# Altium footprint library Diode_SMD.PcbLib: 100 footprints (part 3 of 7)
Each footprint in its own frame and in the unit in brackets; x right, y up, seen from the top. Pads: shape width x height; smd on the part's side, far side on the other; paste and mask are expansions set on the pad; w line width, h text height; cw(c..) or ccw(c..) is an arc to the next point about the centre after c.
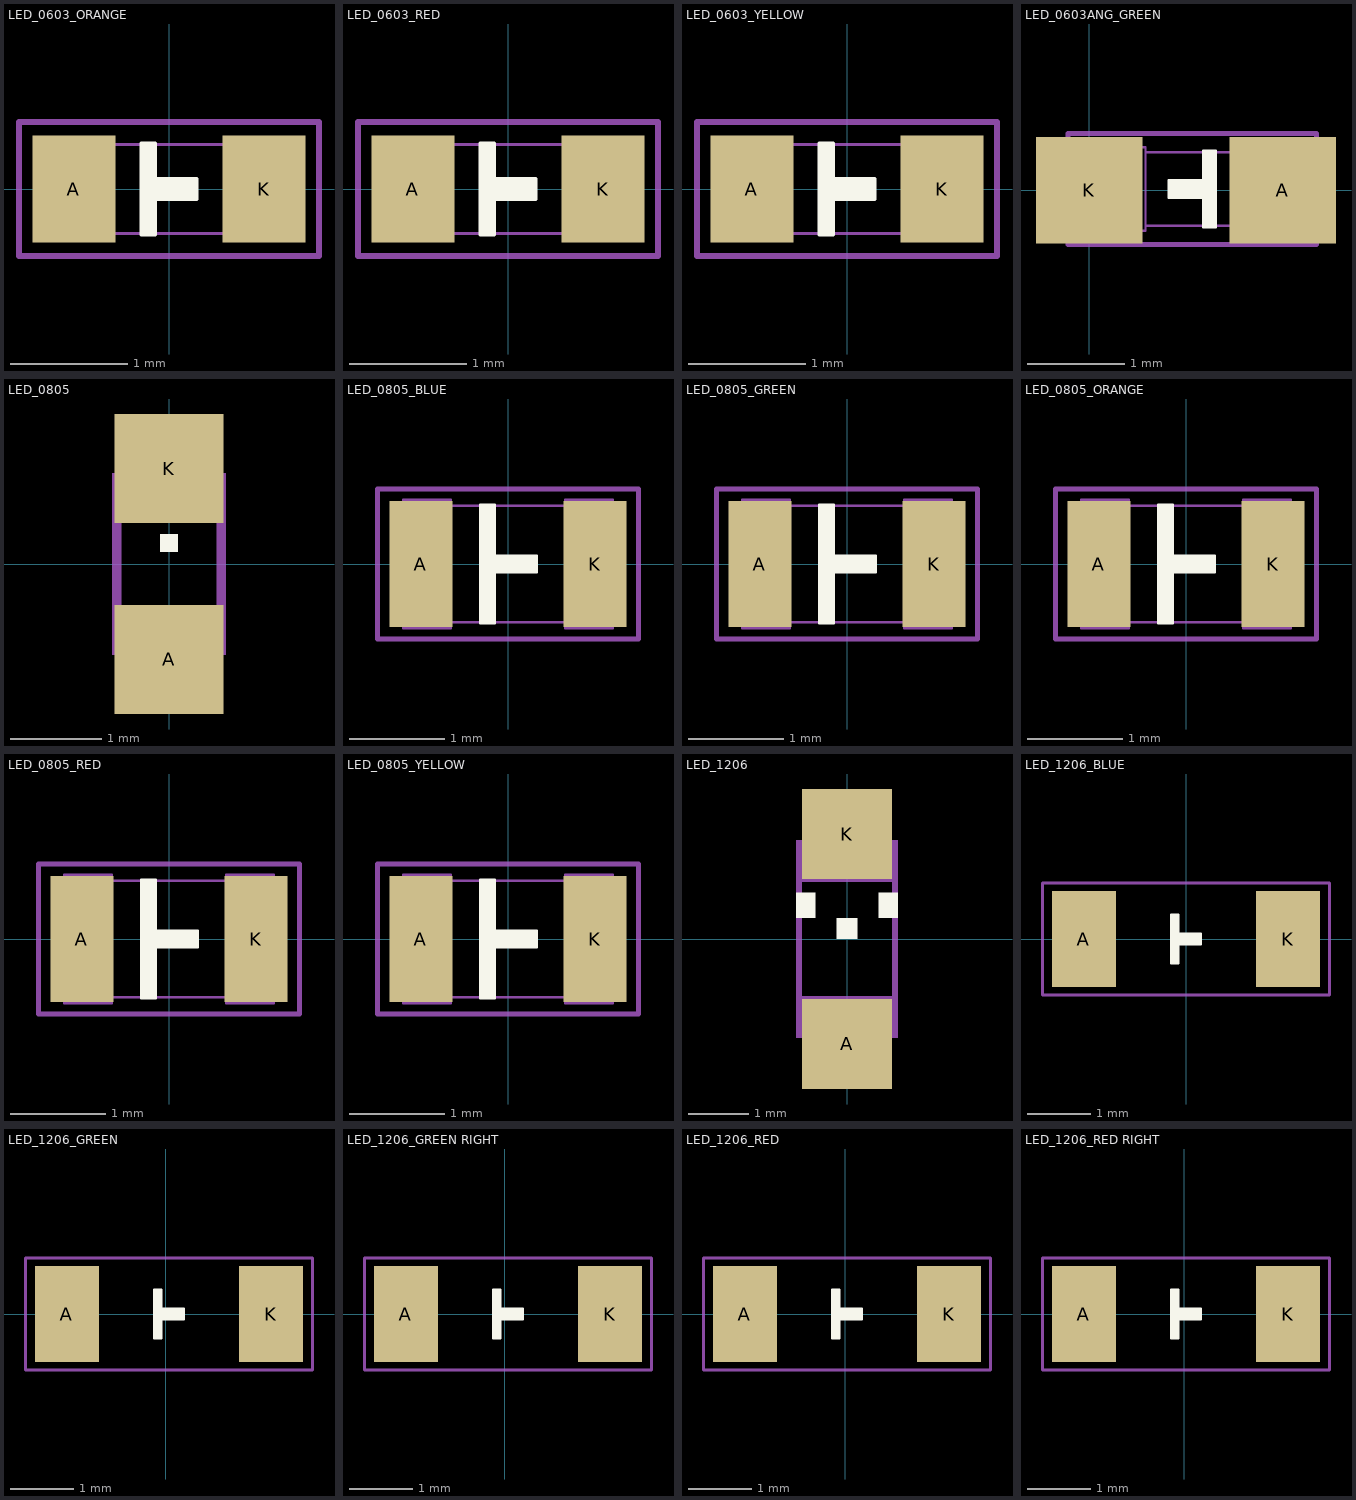
[diagram p2: the footprints below, top view; thin cyan lines are the x and y axes]

## LED_0603_ORANGE [mil]
height 31.5
pads (2):
  rect 28x36 smd: A(-32,0) K(32,0)
Top Overlay:
  region: -9.5,15.5 -4.5,15.5 -4.5,3.5 9.5,3.5 9.5,-3.5 -4.5,-3.5 -4.5,-15.5 -9.5,-15.5
  lines w1: -9.5,-15.5 -9.5,15.5 -4.5,15.5 -4.5,3.5 9.5,3.5 9.5,-3.5 -4.5,-3.5 -4.5,-15.5 -9.5,-15.5
Mechanical 13:
  lines w1: -19,-15 19,-15 ; -18.99,15 19.01,15 ; -33,-17 -33,17 -19,17 -19,-17 -33,-17 ; 19.01,-17 33.01,-17 33.01,17 19.01,17 19.01,-17
Mechanical 14:
  lines w2: -50.5,-22.5 50.5,-22.5 50.5,22.5 -50.5,22.5 -50.5,-22.5
3D body "User Library-led_0603LED0603 orange.STEP": height 23.62, standoff 0, extent -31.88,-15.74 31.9,15.75

## LED_0603_RED [mil]
height 31.5
pads (2):
  rect 28x36 smd: A(-32,0) K(32,0)
Top Overlay:
  region: -9.5,15.5 -4.5,15.5 -4.5,3.5 9.5,3.5 9.5,-3.5 -4.5,-3.5 -4.5,-15.5 -9.5,-15.5
  lines w1: -9.5,-15.5 -4.5,-15.5 -4.5,-3.5 9.5,-3.5 9.5,3.5 -4.5,3.5 -4.5,15.5 -9.5,15.5 -9.5,-15.5
Mechanical 13:
  lines w1: -19,-15 19,-15 ; -18.99,15 19.01,15 ; -33,-17 -33,17 -19,17 -19,-17 -33,-17 ; 19.01,-17 33.01,-17 33.01,17 19.01,17 19.01,-17
Mechanical 14:
  lines w2: -50.5,-22.5 50.5,-22.5 50.5,22.5 -50.5,22.5 -50.5,-22.5
3D body "User Library-led_0603.STEP": height 23.62, standoff 0, extent -31.88,-15.74 31.9,15.76

## LED_0603_YELLOW [mil]
height 31.5
pads (2):
  rect 28x36 smd: A(-32,0) K(32,0)
Top Overlay:
  region: -9.5,15.5 -4.5,15.5 -4.5,3.5 9.5,3.5 9.5,-3.5 -4.5,-3.5 -4.5,-15.5 -9.5,-15.5
  lines w1: -9.5,-15.5 -9.5,15.5 -4.5,15.5 -4.5,3.5 9.5,3.5 9.5,-3.5 -4.5,-3.5 -4.5,-15.5 -9.5,-15.5
Mechanical 13:
  lines w1: -19,-15 19,-15 ; -18.99,15 19.01,15 ; -33,-17 -19,-17 -19,17 -33,17 -33,-17 ; 19.01,-17 19.01,17 33.01,17 33.01,-17 19.01,-17
Mechanical 14:
  lines w2: -50.5,-22.5 50.5,-22.5 50.5,22.5 -50.5,22.5 -50.5,-22.5
3D body "User Library-led_0603LED0603 yellow.STEP": height 23.62, standoff 0, extent -31.89,-15.74 31.9,15.75

## LED_0603ANG_GREEN [mm]
height 0.8
pads (2):
  rect 1.1x1.1 smd: A(2,0) K(0,0)
Top Overlay:
  region: 1.306,0.408 1.179,0.408 1.179,0.103 0.823,0.103 0.823,-0.075 1.179,-0.075 1.179,-0.38 1.306,-0.38
  lines w0.025: 0.823,-0.075 1.179,-0.075 1.179,-0.38 1.306,-0.38 1.306,0.408 1.179,0.408 1.179,0.103 0.823,0.103 0.823,-0.075
Mechanical 13:
  lines w0.025: 0.582,-0.367 1.547,-0.367 ; 0.582,0.395 1.547,0.395 ; 0.226,-0.418 0.226,0.446 0.582,0.446 0.582,-0.418 0.226,-0.418 ; 1.547,-0.418 1.903,-0.418 1.903,0.446 1.547,0.446 1.547,-0.418
Mechanical 14:
  lines w0.051: -0.218,-0.558 2.347,-0.558 2.347,0.585 -0.218,0.585 -0.218,-0.558
3D body "User Library-LTST-S270KGKT-1.STEP": height 0.61, standoff 0.01, extent 0.176,-0.237 1.826,0.913

## LED_0805 [mm]
pads (2):
  rect 1.2x1.2 smd: A(0,-1.05) K(0,1.05)
Top Overlay:
  rectangle: -0.099,0.13 0.102,0.33
Mechanical 16:
  circle w0.102: c-0.45,0.85 r0.103
  rectangle: 0.3,0.5 0.625,1
  rectangle: -0.325,0.5 -0.175,0.75
  rectangle: 0.175,0.5 0.325,0.75
  rectangle: -0.2,0.5 0.2,0.675
  rectangle: 0.3,-1 0.625,-0.5
  rectangle: -0.625,-1 -0.3,-0.5
  rectangle: 0.175,-0.75 0.325,-0.5
  rectangle: -0.325,-0.75 -0.175,-0.5
  rectangle: -0.2,-0.675 0.2,-0.5
  rectangle: -0.6,0.5 -0.3,0.8
  rectangle: -0.625,0.925 -0.4,1
  lines w0.102: -0.575,-0.5 -0.575,0.925 ; -0.35,-1 cw(c0,-1) 0.35,-1 ; -0.35,1 ccw(c0,1) 0.35,1 ; 0.575,-0.525 0.575,0.525
3D body "User Library-LED SMD0805.step": height 0.85, standoff 0.01, extent -0.457,-1.057 0.449,1.006

## LED_0805_BLUE [mil]
height 47.24
pads (2):
  rect 26x52 smd: A(-36,0) K(36,0)
Top Overlay:
  region: -11.5,24.5 -5.5,24.5 -5.5,3.5 12,3.5 12,-3.5 -5.5,-3.5 -5.5,-24.5 -11.5,-24.5
  lines w1: -11.5,-24.5 -11.5,24.5 -5.5,24.5 -5.5,3.5 12,3.5 12,-3.5 -5.5,-3.5 -5.5,-24.5 -11.5,-24.5
Mechanical 13:
  lines w1: -23.62,-24 23.62,-24 ; -23.62,24 23.62,24 ; -43.31,-26.57 -43.31,26.57 -23.62,26.57 -23.62,-26.57 -43.31,-26.57 ; 23.62,-26.57 43.31,-26.57 43.31,26.57 23.62,26.57 23.62,-26.57
Mechanical 14:
  lines w2: -54,-31 54,-31 54,31 -54,31 -54,-31
3D body "User Library-led_0805LED0805_blue.STEP": height 43.31, standoff 0, extent -39.76,-24.6 39.77,24.61

## LED_0805_GREEN [mil]
height 47.24
pads (2):
  rect 26x52 smd: A(-36,0) K(36,0)
Top Overlay:
  region: -11.5,24.5 -5.5,24.5 -5.5,3.5 12,3.5 12,-3.5 -5.5,-3.5 -5.5,-24.5 -11.5,-24.5
  lines w1: -11.5,-24.5 -5.5,-24.5 -5.5,-3.5 12,-3.5 12,3.5 -5.5,3.5 -5.5,24.5 -11.5,24.5 -11.5,-24.5
Mechanical 13:
  lines w1: -23.62,-24 23.62,-24 ; -23.62,24 23.62,24 ; -43.31,-26.57 -23.62,-26.57 -23.62,26.57 -43.31,26.57 -43.31,-26.57 ; 23.62,-26.57 23.62,26.57 43.31,26.57 43.31,-26.57 23.62,-26.57
Mechanical 14:
  lines w2: -54,-31 -54,31 54,31 54,-31 -54,-31
3D body "User Library-led_0805LED0805_green.STEP": height 43.31, standoff 0, extent -39.76,-24.6 39.77,24.61

## LED_0805_ORANGE [mil]
height 47.24
pads (2):
  rect 26x52 smd: A(-36,0) K(36,0)
Top Overlay:
  region: -11.5,24.5 -5.5,24.5 -5.5,3.5 12,3.5 12,-3.5 -5.5,-3.5 -5.5,-24.5 -11.5,-24.5
  lines w1: -11.5,-24.5 -5.5,-24.5 -5.5,-3.5 12,-3.5 12,3.5 -5.5,3.5 -5.5,24.5 -11.5,24.5 -11.5,-24.5
Mechanical 13:
  lines w1: -23.62,-24 23.62,-24 ; -23.62,24 23.62,24 ; -43.31,-26.57 -43.31,26.57 -23.62,26.57 -23.62,-26.57 -43.31,-26.57 ; 23.62,-26.57 43.31,-26.57 43.31,26.57 23.62,26.57 23.62,-26.57
Mechanical 14:
  lines w2: -54,-31 54,-31 54,31 -54,31 -54,-31
3D body "User Library-led_0805LED0805_orange.STEP": height 43.31, standoff 0, extent -39.76,-24.6 39.77,24.61

## LED_0805_RED [mil]
height 47.24
pads (2):
  rect 26x52 smd: A(-36,0) K(36,0)
Top Overlay:
  region: -11.5,24.5 -5.5,24.5 -5.5,3.5 12,3.5 12,-3.5 -5.5,-3.5 -5.5,-24.5 -11.5,-24.5
  lines w1: -11.5,-24.5 -5.5,-24.5 -5.5,-3.5 12,-3.5 12,3.5 -5.5,3.5 -5.5,24.5 -11.5,24.5 -11.5,-24.5
Mechanical 13:
  lines w1: -23.62,-24 23.62,-24 ; -23.62,24 23.62,24 ; -43.31,-26.57 -43.31,26.57 -23.62,26.57 -23.62,-26.57 -43.31,-26.57 ; 23.62,-26.57 43.31,-26.57 43.31,26.57 23.62,26.57 23.62,-26.57
Mechanical 14:
  lines w2: -54,-31 54,-31 54,31 -54,31 -54,-31
3D body "User Library-led_0805LED0805_red.STEP": height 43.31, standoff 0, extent -39.76,-24.6 39.77,24.61

## LED_0805_YELLOW [mil]
height 47.24
pads (2):
  rect 26x52 smd: A(-36,0) K(36,0)
Top Overlay:
  region: -11.5,24.5 -5.5,24.5 -5.5,3.5 12,3.5 12,-3.5 -5.5,-3.5 -5.5,-24.5 -11.5,-24.5
  lines w1: -11.5,-24.5 -11.5,24.5 -5.5,24.5 -5.5,3.5 12,3.5 12,-3.5 -5.5,-3.5 -5.5,-24.5 -11.5,-24.5
Mechanical 13:
  lines w1: -23.62,-24 23.62,-24 ; -23.62,24 23.62,24 ; -43.31,-26.57 -23.62,-26.57 -23.62,26.57 -43.31,26.57 -43.31,-26.57 ; 23.62,-26.57 23.62,26.57 43.31,26.57 43.31,-26.57 23.62,-26.57
Mechanical 14:
  lines w2: -54,-31 54,-31 54,31 -54,31 -54,-31
3D body "User Library-led_0805LED0805_yellow.STEP": height 43.31, standoff 0, extent -39.76,-24.6 39.77,24.61

## LED_1206 [mm]
pads (2):
  rect 1.5x1.5 smd: A(0,-1.75) K(0,1.75)
Top Overlay:
  rectangle: -0.85,0.35 -0.525,0.775
  rectangle: 0.525,0.35 0.85,0.775
  rectangle: -0.175,0 0.175,0.35
Mechanical 16:
  circle w0.102: c-0.55,1.425 r0.1
  rectangle: -0.85,1.525 -0.35,1.65
  rectangle: -0.85,1.225 -0.625,1.55
  rectangle: -0.45,1.225 -0.325,1.45
  rectangle: -0.65,1.225 -0.225,1.35
  rectangle: 0.35,1.3 0.85,1.65
  rectangle: 0.25,1.225 0.85,1.35
  rectangle: -0.85,0.95 0.85,1.25
  rectangle: -0.85,-1.65 0.85,-0.95
  lines w0.102: -0.8,-0.95 -0.8,0.95 ; -0.4,1.625 ccw(c0,1.625) 0.4,1.625 ; 0.8,-0.95 0.8,0.95
3D body "User Library-LED-FYLS-1206.step": height 1.1, standoff 0, extent -0.787,-1.599 0.813,1.601

## LED_1206_BLUE [mil]
height 47.24
pads (2):
  rect 40x60 smd: A(-64,0) K(64,0)
Top Overlay:
  region: -9.5,15.5 -4.5,15.5 -4.5,3.5 9.5,3.5 9.5,-3.5 -4.5,-3.5 -4.5,-15.5 -9.5,-15.5
  lines w1: -9.5,-15.5 -9.5,15.5 -4.5,15.5 -4.5,3.5 9.5,3.5 9.5,-3.5 -4.5,-3.5 -4.5,-15.5 -9.5,-15.5
Mechanical 14:
  lines w2: -90,-35 90,-35 90,35 -90,35 -90,-35
3D body "User Library-led_1206LED1206 blue.STEP": height 43.31, standoff 0, extent -63.39,-31.5 63.38,31.5

## LED_1206_GREEN [mil]
height 47.24
pads (2):
  rect 40x60 smd: A(-62,0) K(66,0)
Top Overlay:
  region: -7.5,15.5 -2.5,15.5 -2.5,3.5 11.5,3.5 11.5,-3.5 -2.5,-3.5 -2.5,-15.5 -7.5,-15.5
  lines w1: -7.5,-15.5 -2.5,-15.5 -2.5,-3.5 11.5,-3.5 11.5,3.5 -2.5,3.5 -2.5,15.5 -7.5,15.5 -7.5,-15.5
Mechanical 14:
  lines w2: -88,-35 -88,35 92,35 92,-35 -88,-35
3D body "User Library-led_1206LED1206 green.STEP": height 43.31, standoff 0, extent -63.38,-31.5 63.39,31.5

## LED_1206_GREEN RIGHT [mil]
height 47.24
pads (2):
  rect 40x60 smd: A(-62,0) K(66,0)
Top Overlay:
  region: -7.5,15.5 -2.5,15.5 -2.5,3.5 11.5,3.5 11.5,-3.5 -2.5,-3.5 -2.5,-15.5 -7.5,-15.5
  lines w1: -7.5,-15.5 -7.5,15.5 -2.5,15.5 -2.5,3.5 11.5,3.5 11.5,-3.5 -2.5,-3.5 -2.5,-15.5 -7.5,-15.5
Mechanical 14:
  lines w2: -88,-35 92,-35 92,35 -88,35 -88,-35
3D body "User Library-led_1206LED1206 green.STEP": height 62.99, standoff 0, extent -62.4,-21.65 64.37,21.65

## LED_1206_RED [mil]
height 47.24
pads (2):
  rect 40x60 smd: A(-63,0) K(65,0)
Top Overlay:
  region: -8.5,15.5 -3.5,15.5 -3.5,3.5 10.5,3.5 10.5,-3.5 -3.5,-3.5 -3.5,-15.5 -8.5,-15.5
  lines w1: -8.5,-15.5 -3.5,-15.5 -3.5,-3.5 10.5,-3.5 10.5,3.5 -3.5,3.5 -3.5,15.5 -8.5,15.5 -8.5,-15.5
Mechanical 14:
  lines w2: -89,-35 -89,35 91,35 91,-35 -89,-35
3D body "User Library-led_1206LED1206 red.STEP": height 43.31, standoff 0, extent -63.39,-31.5 63.38,31.5

## LED_1206_RED RIGHT [mil]
height 47.24
pads (2):
  rect 40x60 smd: A(-63,0) K(65,0)
Top Overlay:
  region: -8.5,15.5 -3.5,15.5 -3.5,3.5 10.5,3.5 10.5,-3.5 -3.5,-3.5 -3.5,-15.5 -8.5,-15.5
  lines w1: -8.5,-15.5 -8.5,15.5 -3.5,15.5 -3.5,3.5 10.5,3.5 10.5,-3.5 -3.5,-3.5 -3.5,-15.5 -8.5,-15.5
Mechanical 14:
  lines w2: -89,-35 91,-35 91,35 -89,35 -89,-35
3D body "User Library-led_1206LED1206 red.STEP": height 62.99, standoff 0, extent -62.4,-21.65 64.37,21.65